# EAGLE library part OPT3001 (library My_TI)
OPT3001 edit this description Auto generated by make-symbol-device-package-bsdl.ulp Rev. 43 Source: OPT3001.txt
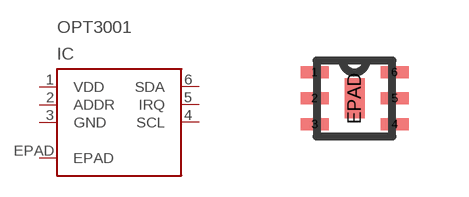
[diagram p3: symbol with the pads of USON6; footprint USON6]

Designator prefix IC

## OPT3001  [USON6]
1  VDD  pwr
2  ADDR
3  GND  pwr
4  SCL
5  IRQ
6  SDA
EPAD  EPAD

## Footprint USON6 (pad centres in mm)
USON6 Auto generated by make-symbol-device-package-bsdl.ulp Rev. 43
smd 0.7 x 0.3: 1 -1,0.65; 2 -1,0; 3 -1,-0.65; 4 1,-0.65; 5 1,0; 6 1,0.65
smd 0.5 x 1: EPAD 0,0